# Altium footprint library 3v3.PcbLib: 3 footprints
Each footprint in its own frame and in the unit in brackets; x right, y up, seen from the top. Pads: shape width x height; smd on the part's side, far side on the other; paste and mask are expansions set on the pad; w line width, h text height; cw(c..) or ccw(c..) is an arc to the next point about the centre after c.
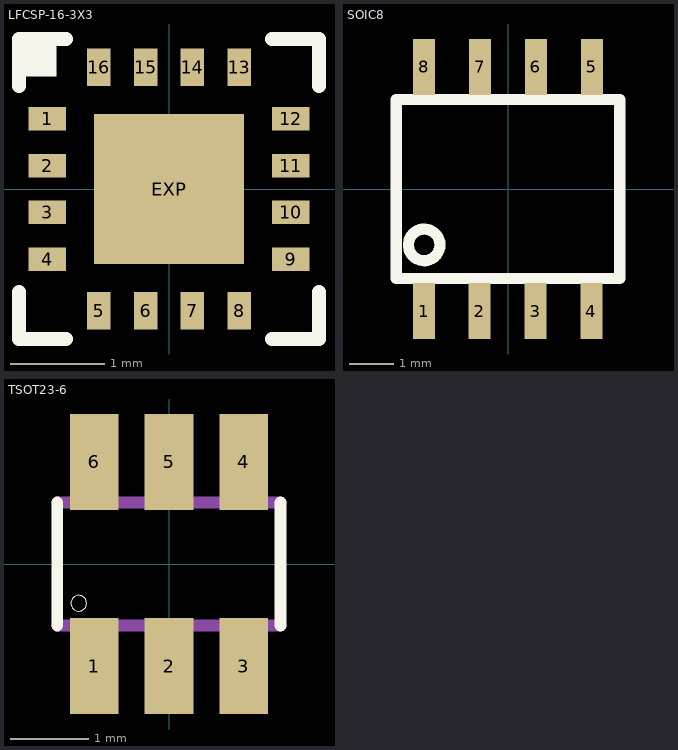
[diagram p0: the footprints below, top view; thin cyan lines are the x and y axes]

## LFCSP-16-3X3 [mm]
pads (17):
  rect 0.4x0.25 smd: 1(-1.3,0.75) 2(-1.3,0.25) 3(-1.3,-0.25) 4(-1.3,-0.75) 9(1.3,-0.75) 10(1.3,-0.25) 11(1.3,0.25) 12(1.3,0.75)
  rect 0.25x0.4 smd: 5(-0.75,-1.3) 6(-0.25,-1.3) 7(0.25,-1.3) 8(0.75,-1.3) 13(0.75,1.3) 14(0.25,1.3) 15(-0.25,1.3) 16(-0.75,1.3)
  rect 1.6x1.6 smd: EXP(0,0)
Top Overlay:
  rectangle: -1.6,1.2 -1.2,1.6
  lines w0.15: -1.6,-1.1 -1.6,-1.6 -1.1,-1.6 ; -1.6,1.1 -1.6,1.6 -1.1,1.6 ; 1.1,-1.6 1.6,-1.6 1.6,-1.1 ; 1.1,1.6 1.6,1.6 1.6,1.1
Top Paste:
  rectangle: -0.356,-0.356 0.356,0.356
Top Solder:
  rectangle: -0.9,-0.9 0.9,0.9
3D body "User Library-LFCSP-16.step": height 0.97, standoff -0.03, extent -1.51,-1.51 1.51,1.51

## SOIC8 [mm]
pads (8):
  rect 0.5x1.27 smd: 1(-1.905,-2.773) 2(-0.645,-2.773) 3(0.625,-2.773) 4(1.895,-2.773) 5(1.905,2.773) 6(0.635,2.773) 7(-0.635,2.773) 8(-1.905,2.773)
Top Overlay:
  circle w0.254: c-1.905,-1.27 r0.359
  lines w0.254: -2.54,-2.032 -2.54,2.032 2.54,2.032 2.54,-2.032 -2.54,-2.032
Mechanical 16:
  rectangle: -2.08,-2.932 -1.73,-2.032
  rectangle: -0.82,-2.932 -0.47,-2.032
  rectangle: 0.45,-2.932 0.8,-2.032
  rectangle: 1.72,-2.932 2.07,-2.032
  rectangle: 1.73,2.032 2.08,2.932
  rectangle: 0.46,2.032 0.81,2.932
  rectangle: -0.81,2.032 -0.46,2.932
  rectangle: -2.08,2.032 -1.73,2.932
  lines w0.152: -2.34,-2.032 2.36,-2.032 ; -2.34,2.032 2.36,2.032
3D body "User Library-SOIC-8-1.step": height 1.75, standoff 0, extent -2.45,-3 2.45,3

## TSOT23-6 [mm]
pads (6):
  rect 0.62x1.22 smd: 1(-0.95,-1.3) 2(0,-1.3) 3(0.95,-1.3) 4(0.95,1.3) 5(0,1.3) 6(-0.95,1.3)
Top Overlay:
  circle w0: c-1.15,-0.5 r0.1
  lines w0.152: -1.423,-0.781 -1.423,0.781 ; 1.422,-0.781 1.422,0.781
Mechanical 16:
  rectangle: -1.175,0.8 -0.725,1.4
  rectangle: -0.225,0.8 0.225,1.4
  rectangle: 0.725,0.8 1.175,1.4
  rectangle: 0.725,-1.4 1.175,-0.8
  rectangle: -0.225,-1.4 0.225,-0.8
  rectangle: -1.175,-1.4 -0.725,-0.8
  lines w0.152: -1.423,-0.781 1.422,-0.781 ; -1.423,0.781 1.422,0.781
3D body "User Library-TSOT-23-6(S6).step": height 1, standoff 0, extent -1.45,-1.412 1.45,1.412